# Altium footprint library PcbLib1.PcbLib: 4 footprints
Each footprint in its own frame and in the unit in brackets; x right, y up, seen from the top. Pads: shape width x height; smd on the part's side, far side on the other; paste and mask are expansions set on the pad; w line width, h text height; cw(c..) or ccw(c..) is an arc to the next point about the centre after c.
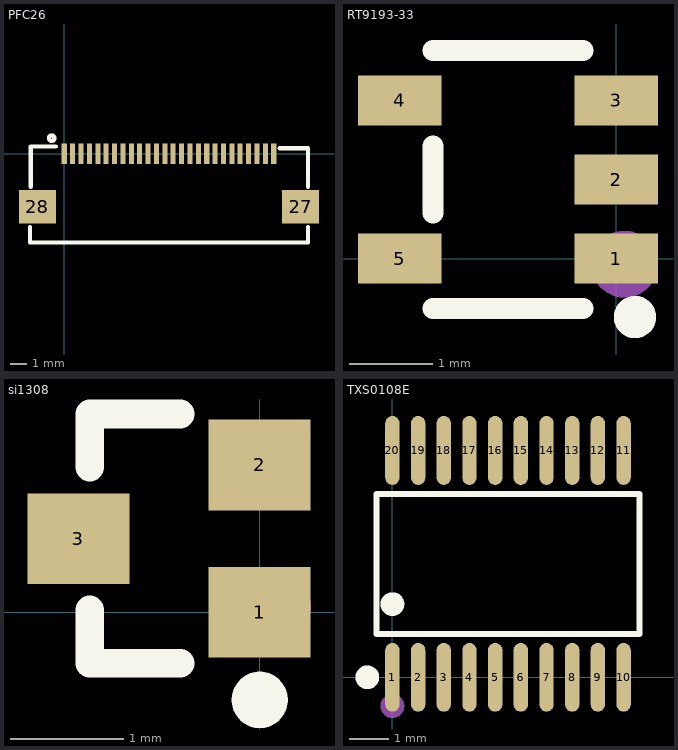
[diagram p0: the footprints below, top view; thin cyan lines are the x and y axes]

## PFC26 [mm]
pads (28):
  rect 0.3x1.2 smd: 1(0,0) 2(0.502,0) 3(1.002,0) 4(1.502,0) 5(2.002,0) 6(2.502,0) 7(3.002,0) 8(3.502,0) 9(4.002,0) 10(4.502,0) 11(5.002,0) 12(5.502,0) 13(6.002,0) 14(6.502,0) 15(7.002,0) 16(7.502,0) 17(8.002,0) 18(8.502,0) 19(9.004,-0.002) 20(9.502,0) 21(10,0.002) 22(10.5,0.002) 23(11,0.002) 24(11.5,0.002) 25(12,0.002) 26(12.5,0.002)
  rect 2.2x2 smd: 27(14.1,-3.15) 28(-1.6,-3.15)
Top Overlay:
  circle w0.254: c-0.75,0.928 r0.162
  lines w0.254: -2.05,-4.374 -2.05,-5.298 14.55,-5.298 14.55,-4.374 ; -2,-1.974 -2,0.428 -0.5,0.428 ; 12.856,0.328 14.55,0.328 14.55,-1.974

## RT9193-33 [mm]
pads (5):
  rect 1x0.6 smd: 1(0,0) 2(0,0.95) 3(0,1.9) 4(-2.6,1.9) 5(-2.6,0)
Top Overlay:
  circle w0.254: c0.224,-0.701 r0.127
  lines w0.254: -2.2,-0.6 -0.4,-0.6 ; -2.2,0.55 -2.2,1.35 ; -2.2,2.5 -0.4,2.5
Mechanical 15:
  circle w0.4: c0.097,-0.066 r0.2

## si1308 [mm]
pads (3):
  rect 0.9x0.8 smd: 1(0,0) 2(0,1.3) 3(-1.6,0.65)
Top Overlay:
  lines w0.249: 0,-0.65 ccw(c0.001,-0.774) 0.003,-0.65
  lines w0.254: -1.5,0.019 -1.5,-0.45 -0.7,-0.45 ; -1.5,1.281 -1.5,1.75 -0.7,1.75
Mechanical 15:
  circle w0.254: c0.2,0.05 r0.127

## TXS0108E [mm]
pads (20):
  oval 0.364x1.742 smd: 1(0,0) 2(0.65,0) 3(1.3,0) 4(1.95,0) 5(2.6,0) 6(3.25,0) 7(3.9,0) 8(4.55,0) 9(5.2,0) 10(5.85,0) 11(5.85,5.742) 12(5.2,5.742) 13(4.55,5.742) 14(3.9,5.742) 15(3.25,5.742) 16(2.6,5.742) 17(1.95,5.742) 18(1.3,5.742) 19(0.65,5.742) 20(0,5.742)
Top Overlay:
  circle w0.3: c0,1.852 r0.15
  circle w0.3: c-0.634,0 r0.15
  lines w0.152: -0.401,1.1 -0.401,4.642 6.251,4.642 6.251,1.1 -0.401,1.1
Mechanical 15:
  circle w0.3: c0,-0.729 r0.15